# Altium footprint library rcl.PCBLIB: 489 footprints (part 10 of 31)
Each footprint in its own frame and in the unit in brackets; x right, y up, seen from the top. Pads: shape width x height; smd on the part's side, far side on the other; paste and mask are expansions set on the pad; w line width, h text height; cw(c..) or ccw(c..) is an arc to the next point about the centre after c.
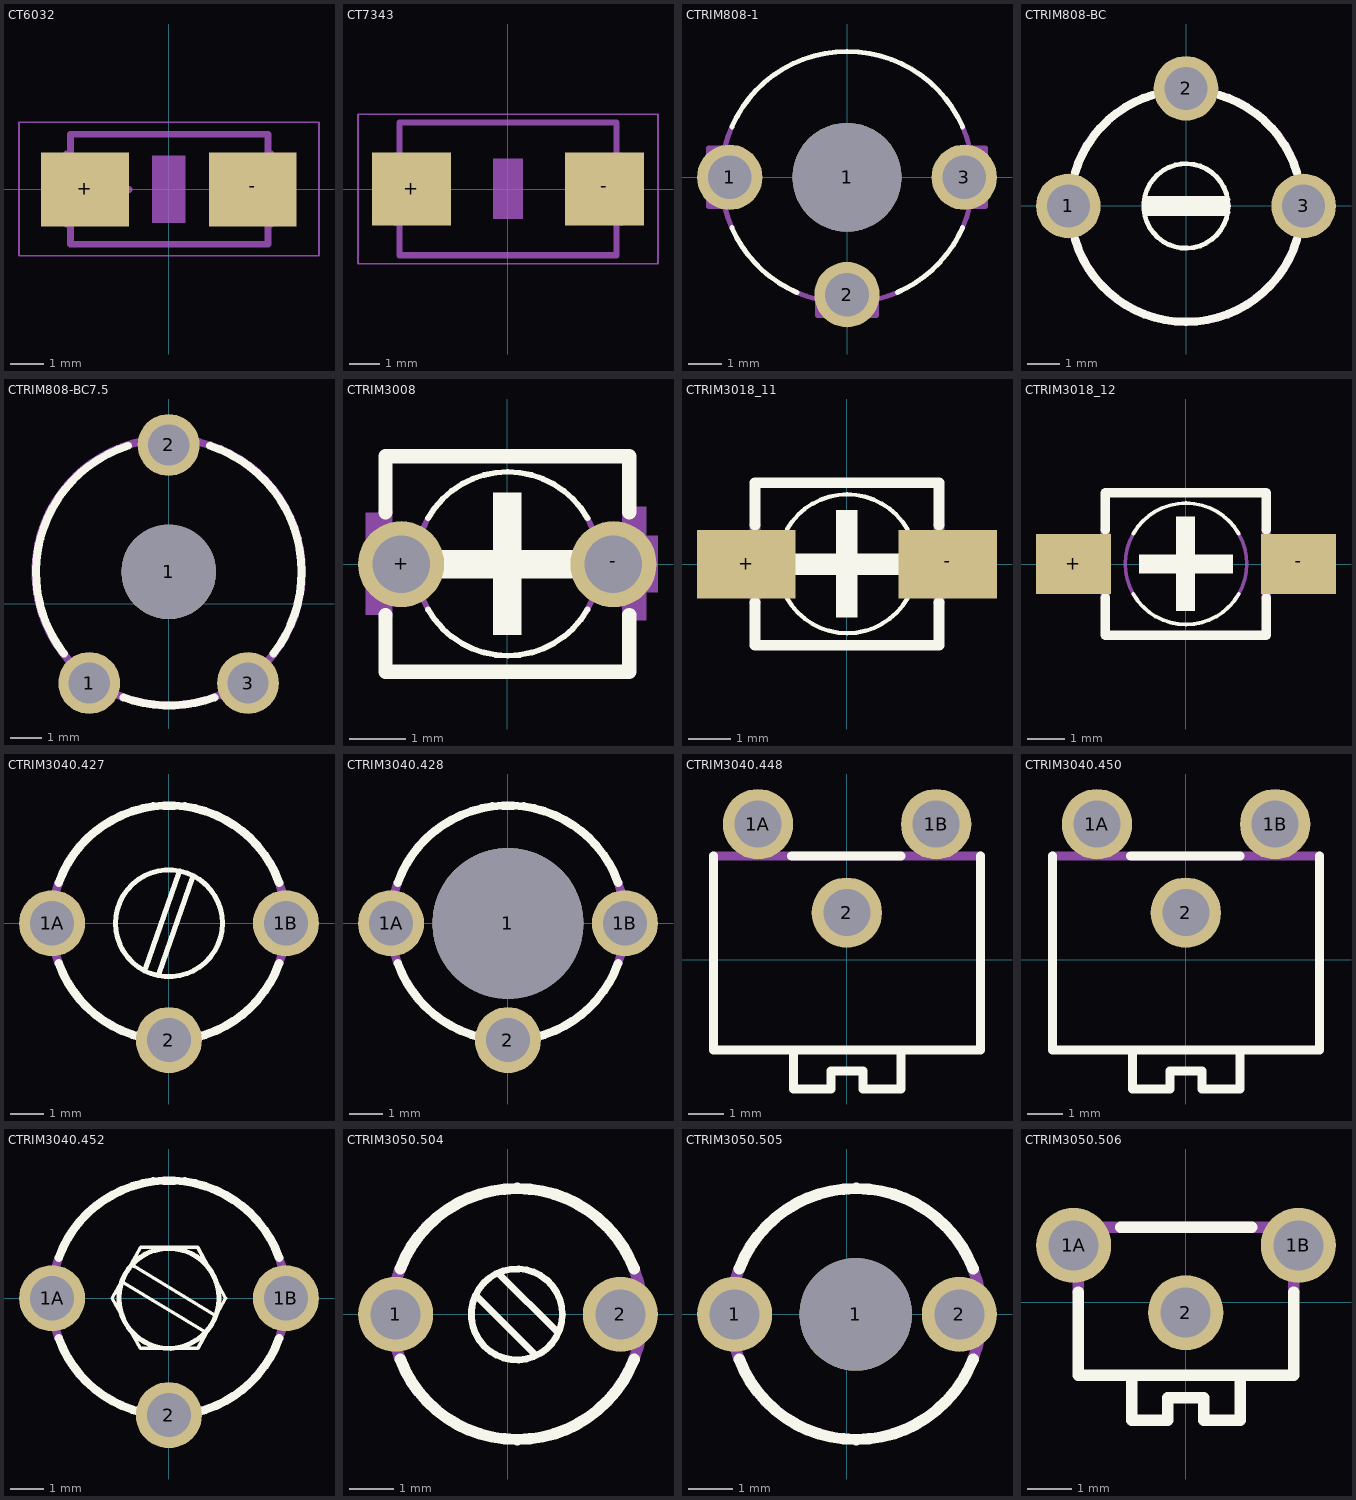
[diagram p9: the footprints below, top view; thin cyan lines are the x and y axes]

## CT6032 [mil]
pads (2):
  rect 103x87 smd: +(-98.43,0) -(99,0)
Mechanical 6:
  rectangle: -19.69,-39.37 20,40
Mechanical 16:
  lines w6: -120.98,-42.01 -120.98,43 ; 121,-42.01 121,43
  lines w8: -96.46,0 -46.46,0 ; -70.87,-25.2 -70.87,25 ; -115.43,-64.45 -115.43,65 117,65 117,-64.45 -115.43,-64.45
Mechanical 27:
  lines w2: -176.1,-78.07 177,-78.07 177,79 -176.1,79 -176.1,-78.07

## CT7343 [mil]
pads (2):
  rect 103x95 smd: +(-125.98,0) -(126,0)
Mechanical 6:
  rectangle: -19.69,-39.37 20,40
Mechanical 16:
  lines w6: -147.01,-45 -147.01,45 ; 148,-45 148,45
  lines w8: -121.65,0 -80.31,0 ; -100.39,-20.47 -100.39,21 ; -141.42,-86.42 -141.42,87 142,87 142,-86.42 -141.42,-86.42
Mechanical 27:
  lines w2: -195.79,-97.76 196,-97.76 196,98 -195.79,98 -195.79,-97.76

## CTRIM808-1 [mil]
pads (4):
  round 78 hole 52: 1(-140,0) 2(0,-140) 3(140,0)
  round 130 hole 130: 1(0,0)
Top Overlay:
  circle w6: c0,0 r50
  rectangle: -50,-10 50,10
  lines w6: -137.5,-59.95 ccw(c0,0) -59.95,-137.5 ; -137.5,60 cw(c0.25,-0.06) 138,60 ; -48.99,-10 49,-10 ; -48.99,10 49,10 ; 60,-137.5 ccw(c0.28,0.57) 138,-59.95
Mechanical 16:
  lines w6: -145.87,-35 -165,-35 -165,35 -145.87,35 ; -137.5,-59.95 cw(c0.06,0.03) -137.5,60 ; -59.95,-137.5 ccw(c0.03,0.06) 60,-137.5 ; -35,-145.87 -35,-165 35,-165 35,-145.87 ; 138,-59.95 ccw(c0.44,0.03) 138,60 ; 146,-35 165,-35 165,35 146,35

## CTRIM808-BC [mil]
pads (3):
  round 78 hole 52: 1(-142,0) 2(0,142) 3(142,0)
Top Overlay:
  circle w6: c0,0 r51
  rectangle: -48,-12 48,12
  lines w10: -134,-40 ccw(c0,0) 134,-40 ; -134,40 cw(c0,0) -40,134 ; 40,134 cw(c0,0) 134,40
Mechanical 16:
  circle w10: c0,0 r140

## CTRIM808-BC7.5 [mil]
pads (4):
  round 78 hole 52: 1(-100,-100) 2(0,200) 3(100,-100)
  round 119 hole 119: 1(0,40)
Top Overlay:
  circle w6: c0,40 r51
  rectangle: -48,28 48,52
  lines w10: -131.89,-62.99 cw(c0.06,39.79) -51.18,199 ; -57.09,-118.11 ccw(c0.46,40.63) 58,-118.11 ; 52,199 cw(c0.4,40.03) 132,-62.99
Mechanical 16:
  circle w10: c0,40 r168

## CTRIM3008 [mil]
pads (2):
  round 60 hole 40: +(-73.82,0) -(74,0)
Top Overlay:
  rectangle: -9.84,-49.21 10,50
  rectangle: -49.21,-9.84 50,10
  lines w4: -55.12,-31.5 ccw(c0.44,0.25) 56,-31.5 ; -55.12,32 cw(c0.44,0.25) 56,32
  lines w10: -84.65,-35.43 -84.65,-74.8 85,-74.8 85,-35.43 ; -84.65,36 -84.65,75 85,75 85,36
Mechanical 16:
  rectangle: -98.43,-35.43 -88.58,36
  rectangle: 89,-39.37 97,40
  rectangle: 97,-19.68 105,20
  lines w4: -55.12,-31.5 cw(c0.44,0.25) -55.12,32 ; 56,-31.5 ccw(c0.44,0.25) 56,32
  lines w10: -84.65,-35.43 -84.65,36 ; 85,-35.43 85,36

## CTRIM3018_11 [mil]
pads (2):
  rect 91x63 smd: +(-92.52,0) -(93,0)
Top Overlay:
  rectangle: -9.84,-49.21 10,50
  rectangle: -49.21,-9.84 50,10
  lines w4: -55.12,-31.5 ccw(c0.44,0.25) 56,-31.5 ; -55.12,32 cw(c0.44,0.25) 56,32
  lines w10: -84.65,-35.43 -84.65,-74.8 85,-74.8 85,-35.43 ; -84.65,36 -84.65,75 85,75 85,36
Mechanical 16:
  rectangle: -102.36,-23.62 -88.58,24
  rectangle: 89,-23.62 103,24
  lines w4: -55.12,-31.5 cw(c0.44,0.25) -55.12,32 ; 56,-31.5 ccw(c0.44,0.25) 56,32
  lines w10: -84.65,-35.43 -84.65,36 ; 85,-35.43 85,36

## CTRIM3018_12 [mil]
pads (2):
  rect 79x63 smd: +(-118.11,0) -(119,0)
Top Overlay:
  rectangle: -9.84,-49.21 10,50
  rectangle: -49.21,-9.84 50,10
  lines w4: -55.12,-31.5 ccw(c0.44,0.25) 56,-31.5 ; -55.12,32 cw(c0.44,0.25) 56,32
  lines w10: -84.65,-35.43 -84.65,-74.8 85,-74.8 85,-35.43 ; -84.65,36 -84.65,75 85,75 85,36
Mechanical 16:
  rectangle: -137.8,-23.62 -88.58,24
  rectangle: 89,-23.62 138,24
  lines w4: -55.12,-31.5 cw(c0.44,0.25) -55.12,32 ; 56,-31.5 ccw(c0.44,0.25) 56,32
  lines w10: -84.65,-35.43 -84.65,36 ; 85,-35.43 85,36

## CTRIM3040.427 [mil]
pads (3):
  round 78 hole 52: 1A(-137.8,0) 1B(138,0) 2(0,-137.8)
Top Overlay:
  circle w6: c0,0 r63
  lines w6: -27.56,-53.15 12,60 ; -11.81,-59.06 28,54
  lines w10: -129.92,-47.24 ccw(c0.04,0.01) 130,-47.24 ; -129.92,48 cw(c0.04,0.74) 130,48
Mechanical 16:
  rectangle: -153.54,-23.62 -137.8,24
  rectangle: 138,-23.62 154,24
  rectangle: -23.62,-153.54 24,-137.8
  lines w10: -129.92,-47.24 cw(c1.04,0.38) -129.92,48 ; 130,-47.24 ccw(c-0.96,0.38) 130,48

## CTRIM3040.428 [mil]
pads (4):
  round 178 hole 178: 1(0,0)
  round 78 hole 52: 1A(-137.8,0) 1B(138,0) 2(0,-137.8)
Top Overlay:
  circle w6: c0,0 r63
  lines w6: -27.56,-51.18 12,60 ; -11.81,-59.06 28,52
  lines w10: -129.92,-47.24 ccw(c0.04,0.01) 130,-47.24 ; -129.92,48 cw(c0.04,0.74) 130,48
Mechanical 16:
  rectangle: -153.54,-23.62 -137.8,24
  rectangle: 138,-23.62 154,24
  rectangle: -23.62,-153.54 24,-137.8
  lines w10: -129.92,-47.24 cw(c1.04,0.38) -129.92,48 ; 130,-47.24 ccw(c-0.96,0.38) 130,48

## CTRIM3040.448 [mil]
pads (3):
  round 78 hole 52: 1A(-98.43,150) 1B(99,150) 2(0,52)
Top Overlay:
  lines w10: -147.64,115 -147.64,-100 148,-100 148,115 ; -61.02,115 60,115 ; -59.06,-103.94 -59.06,-143.31 -17.72,-143.31 -17.72,-123.62 18,-123.62 18,-143.31 60,-143.31 60,-103.94
Mechanical 16:
  rectangle: -110.24,119 -86.61,180
  rectangle: 87,119 111,180
  lines w10: -147.64,115 148,115

## CTRIM3040.450 [mil]
pads (3):
  round 78 hole 52: 1A(-98.43,150) 1B(99,150) 2(0,52)
Top Overlay:
  lines w10: -147.64,115 -147.64,-100 148,-100 148,115 ; -61.02,115 60,115 ; -59.06,-103.94 -59.06,-143.31 -17.72,-143.31 -17.72,-123.62 18,-123.62 18,-143.31 60,-143.31 60,-103.94
Mechanical 16:
  rectangle: -110.24,119 -86.61,180
  rectangle: 87,119 111,180
  lines w10: -147.64,115 148,115

## CTRIM3040.452 [mil]
pads (3):
  round 78 hole 52: 1A(-137.8,0) 1B(138,0) 2(0,-137.8)
Top Overlay:
  circle w4: c0,0 r60
  circle w4: c0,0 r58
  lines w4: -53.15,18 42,-39.37 ; -41.34,38 54,-19.68 ; -66.93,0 -33.46,60 34,60 67,0 34,-59.06 -33.46,-59.06 -66.93,0
  lines w10: -129.92,-47.24 ccw(c0.04,0.01) 130,-47.24 ; -129.92,48 cw(c0.04,0.74) 130,48
Mechanical 16:
  rectangle: -153.54,-23.62 -137.8,24
  rectangle: 138,-23.62 154,24
  rectangle: -23.62,-153.54 24,-137.8
  lines w10: -129.92,-47.24 cw(c1.04,0.38) -129.92,48 ; 130,-47.24 ccw(c-0.96,0.38) 130,48

## CTRIM3050.504 [mil]
pads (2):
  round 66 hole 44: 1(-98.43,0) 2(99,0)
Top Overlay:
  circle w6: c8,0 r40
  lines w6: -27.56,16 24,-35.43 ; -7.87,36 44,-15.75
  lines w10: -94.49,-39.37 ccw(c8.26,0.15) 111,-39.37 ; -94.49,40 cw(c8.26,0.48) 111,40
Mechanical 16:
  lines w10: -94.49,-39.37 cw(c8.69,0.32) -94.49,40 ; 111,-39.37 ccw(c7.82,0.32) 111,40

## CTRIM3050.505 [mil]
pads (3):
  round 66 hole 44: 1(-98.43,0) 2(99,0)
  round 99 hole 99: 1(8,0)
Top Overlay:
  circle w6: c8,0 r40
  lines w6: -27.56,16 24,-35.43 ; -7.87,36 44,-15.75
  lines w10: -94.49,-39.37 ccw(c8.26,0.15) 111,-39.37 ; -94.49,40 cw(c8.26,0.48) 111,40
Mechanical 16:
  lines w10: -94.49,-39.37 cw(c8.69,0.32) -94.49,40 ; 111,-39.37 ccw(c7.82,0.32) 111,40

## CTRIM3050.506 [mil]
pads (3):
  round 66 hole 44: 1A(-98.43,50) 1B(99,50) 2(0,-9.06)
Top Overlay:
  lines w10: -94.49,9 -94.49,-64.17 -47.24,-64.17 ; -57.09,66 58,66 ; 95,9 95,-64.17 48,-64.17 ; -47.24,-64.17 -47.24,-103.54 -15.75,-103.54 -15.75,-83.86 16,-83.86 16,-103.54 48,-103.54 48,-64.17 ; -47.24,-64.17 48,-64.17
Mechanical 16:
  lines w10: -94.49,9 -94.49,66 95,66 95,9